# Altium footprint library arduino pololu holes fixed.PcbLib: 2 footprints
Each footprint in its own frame and in the unit in brackets; x right, y up, seen from the top. Pads: shape width x height; smd on the part's side, far side on the other; paste and mask are expansions set on the pad; w line width, h text height; cw(c..) or ccw(c..) is an arc to the next point about the centre after c.
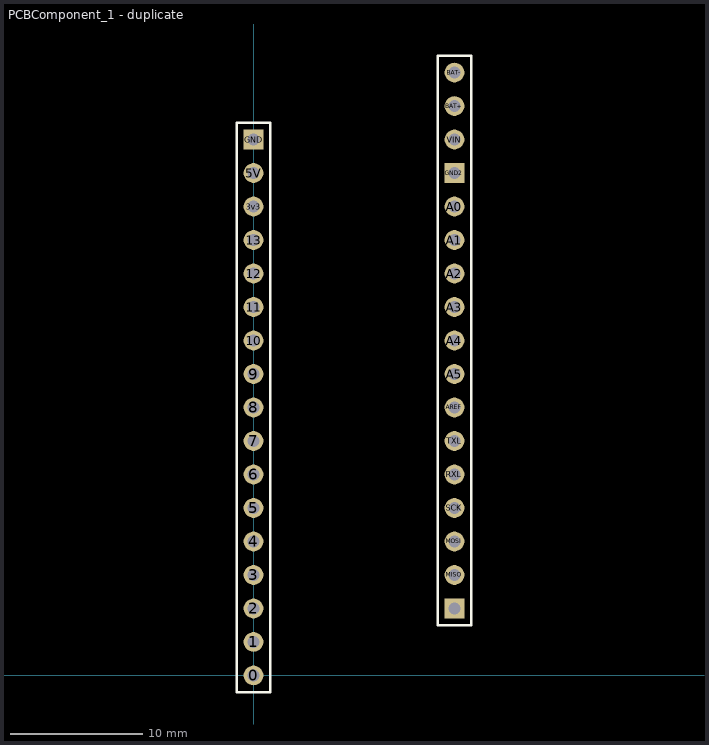
[diagram p0: the footprints below, top view; thin cyan lines are the x and y axes]

## PCBComponent_1 [mm]

## PCBComponent_1 - duplicate [mm]
pads (34):
  round 1.5 hole 0.9: 0(0,0) 1(0,2.54) 2(0,5.08) 3(0,7.62) 3v3(0,35.56) 4(0,10.16) 5(0,12.7) 5V(0,38.1) 6(0,15.24) 7(0,17.78) 8(0,20.32) 9(0,22.86) 10(0,25.4) 11(0,27.94) 12(0,30.48) 13(0,33.02) A0(15.24,35.56) A1(15.24,33.02) A2(15.24,30.48) A3(15.24,27.94) A4(15.24,25.4) A5(15.24,22.86) AREF(15.24,20.32) BAT+(15.24,43.18) BAT-(15.24,45.72) MISO(15.24,7.62) MOSI(15.24,10.16) RXL(15.24,15.24) SCK(15.24,12.7) TXL(15.24,17.78) VIN(15.24,40.64)
  rect 1.5x1.5 hole 0.9: GND(0,40.64) GND2(15.24,38.1) RESET(15.24,5.08)
Top Overlay:
  lines w0.2: -1.27,-1.27 1.27,-1.27 1.27,41.91 -1.27,41.91 -1.27,0.635 -1.27,-1.27 ; 13.97,3.81 16.51,3.81 16.51,46.99 13.97,46.99 13.97,5.715 13.97,3.81